# Altium schematic symbol library HB_Driver.SchLib: 1 symbol
Pins are listed as number, name and electrical type; pins without a type are passive.

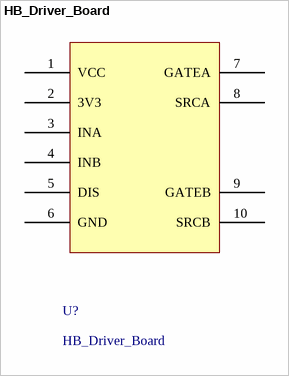
[diagram p0: symbol HB_Driver_Board]

## HB_Driver_Board
designator U?
footprint HB_Driver
pins: 1 VCC, 2 3V3, 3 INA, 4 INB, 5 DIS, 6 GND, 7 GATEA, 8 SRCA, 9 GATEB, 10 SRCB